# Altium footprint library SM_C_0402_SR.PcbLib: 1 footprints
Each footprint in its own frame and in the unit in brackets; x right, y up, seen from the top. Pads: shape width x height; smd on the part's side, far side on the other; paste and mask are expansions set on the pad; w line width, h text height; cw(c..) or ccw(c..) is an arc to the next point about the centre after c.
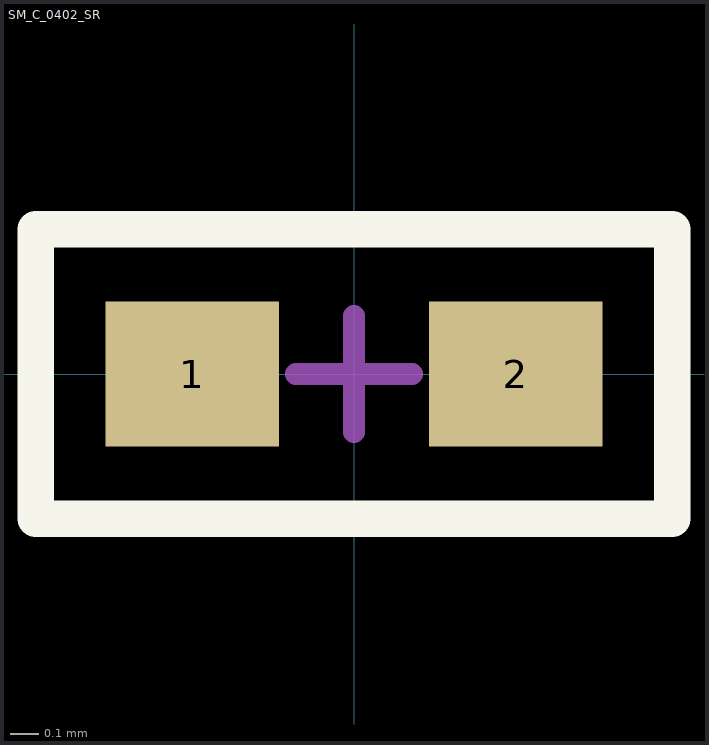
[diagram p0: the footprint, top view; thin cyan lines are the x and y axes]

## SM_C_0402_SR [mm] "0402 capacitor"
height 0.55
pads (2):
  rect 0.6x0.5 smd mask+0.076: 1(-0.559,0) 2(0.559,0)
Top Overlay:
  lines w0.127: -1.1,-0.5 -1.1,0.5 1.1,0.5 1.1,-0.5 -1.1,-0.5
Mechanical 15:
  lines w0.076: -0.2,0 0.2,0 ; 0,-0.2 0,0.2 ; -1.1,-0.5 -1.1,0.5 1.1,0.5 1.1,-0.5 -1.1,-0.5
3D body: height 0.55, standoff 0, extent 0.3,-0.276 0.528,0.276
3D body: height 0.55, standoff 0, extent -0.528,-0.276 -0.3,0.276
3D body: height 0.55, standoff 0, extent -0.525,-0.275 0.525,0.275